# Altium footprint library con-harting.PCBLIB: 29 footprints (part 2 of 2)
Each footprint in its own frame and in the unit in brackets; x right, y up, seen from the top. Pads: shape width x height; smd on the part's side, far side on the other; paste and mask are expansions set on the pad; w line width, h text height; cw(c..) or ccw(c..) is an arc to the next point about the centre after c.
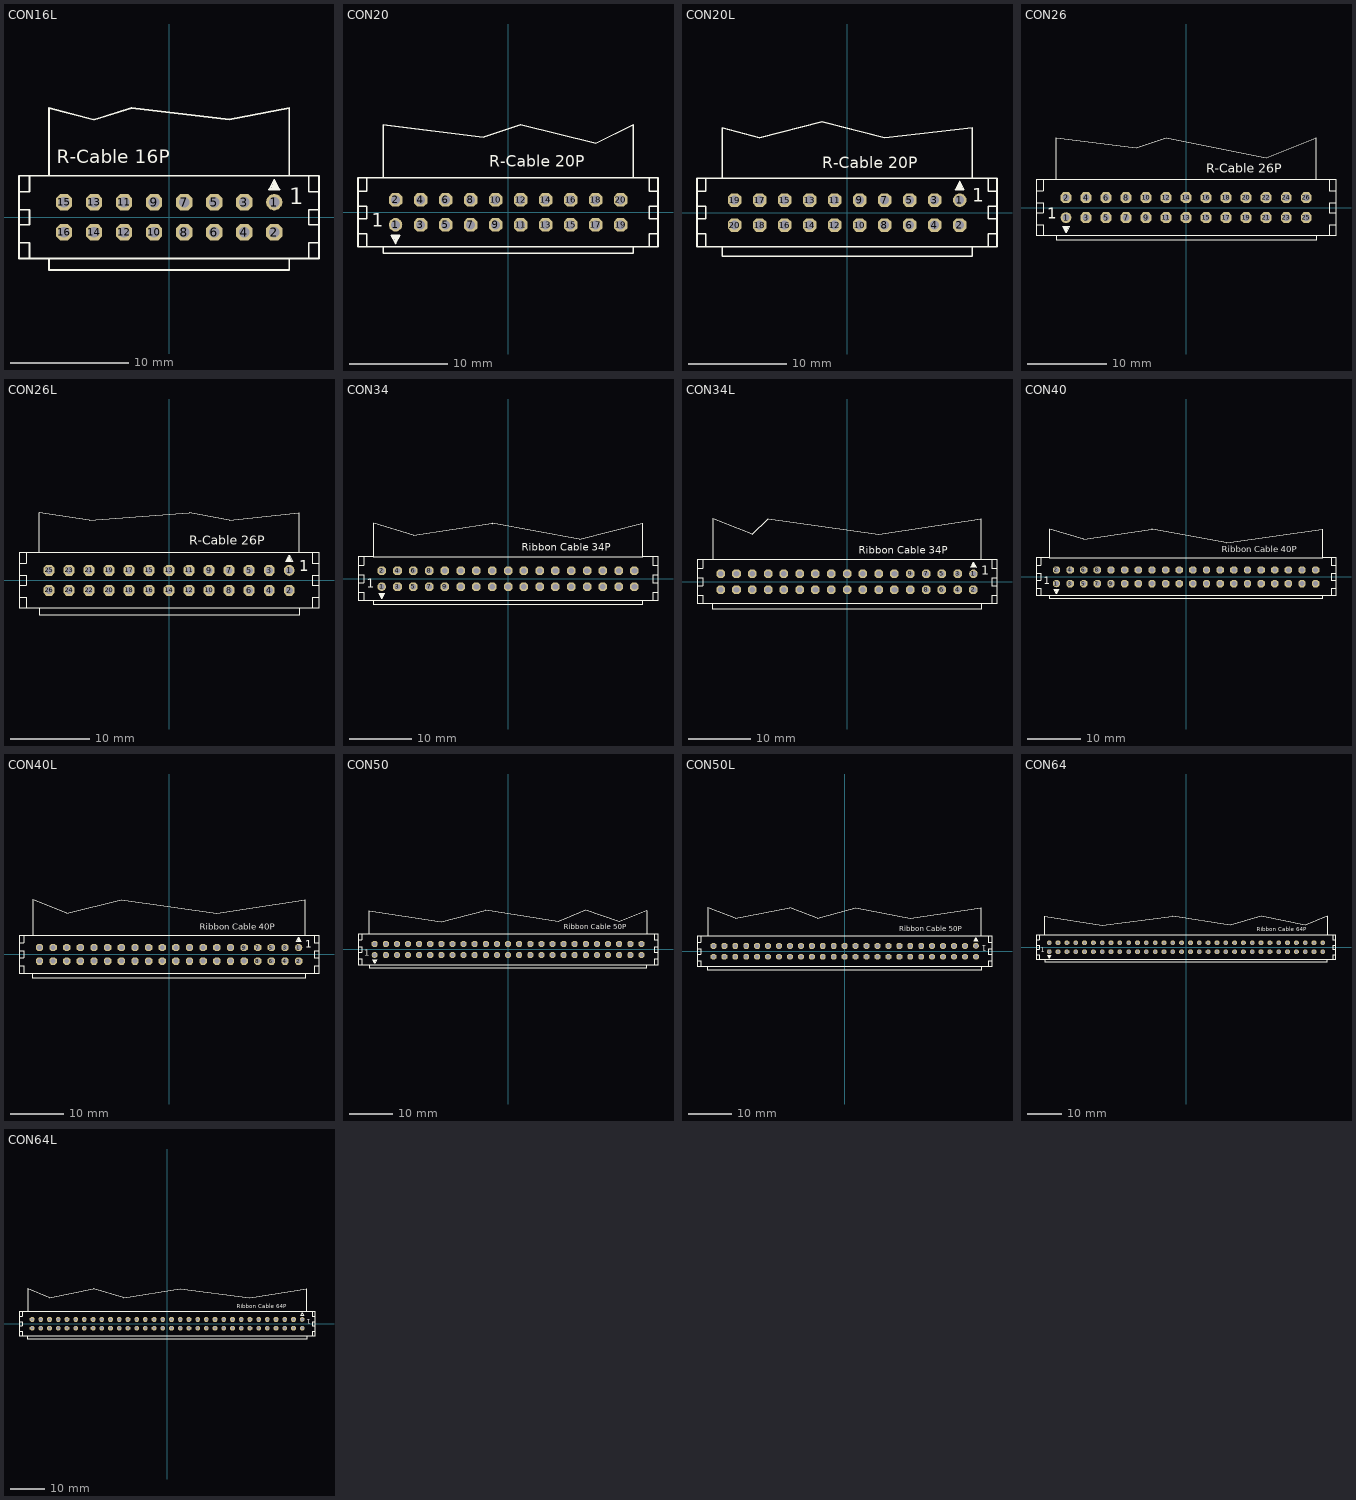
[diagram p1: the footprints below, top view; thin cyan lines are the x and y axes]

## CON16L [mil]
pads (16):
  round 54 hole 36: 1(350,50)
  oct 54x54 hole 36: 2(350,-50) 3(250,50) 4(250,-50) 5(150,50) 6(150,-50) 7(50,50) 8(50,-50) 9(-50,50) 10(-50,-50) 11(-150,50) 12(-150,-50) 13(-250,50) 14(-250,-50) 15(-350,50) 16(-350,-50)
Top Overlay:
  rectangle: 340,99 360,109
  rectangle: 350,94 365,99
  rectangle: 335,94 350,99
  rectangle: 345,107 355,117
  lines w6: 350,115 350,125 ; -500,-85 -465,-85 -465,-137 ; -500,-85 -500,-25 ; -500,-85 -500,-137 -465,-137 ; -500,-25 -465,-25 -465,25 -500,25 ; -500,-25 -500,25 ; -500,25 -500,85 ; -500,85 -500,138 -465,138 ; -500,85 -465,85 -465,138 ; -465,-137 -400,-137 ; -465,138 -400,138 ; -400,-137 -400,-176 400,-176 400,-137 ; -400,-137 400,-137 ; -400,138 -400,364 -250,325 -125,364 200,325 400,364 400,138 ; -400,138 400,138 ; 350,125 333,92 367,92 350,125 ; 400,-137 465,-137 ; 400,138 465,138 ; 465,-137 465,-85 499,-85 ; 465,-137 499,-137 499,-85 ; 465,138 499,138 499,85 ; 465,138 465,85 499,85 ; 499,-85 499,-25 ; 499,-25 465,-25 465,25 499,25 ; 499,-25 499,25 ; 499,25 499,85
  text "1" at 400,25 h93
  text "R-Cable 16P" at -375,165 h77.5

## CON20 [mil]
pads (20):
  round 54 hole 36: 1(-450,-50)
  oct 54x54 hole 36: 2(-450,50) 3(-350,-50) 4(-350,50) 5(-250,-50) 6(-250,50) 7(-150,-50) 8(-150,50) 9(-50,-50) 10(-50,50) 11(50,-50) 12(50,50) 13(150,-50) 14(150,50) 15(250,-50) 16(250,50) 17(350,-50) 18(350,50) 19(450,-50) 20(450,50)
Top Overlay:
  rectangle: -460,-109 -440,-99
  rectangle: -465,-99 -450,-94
  rectangle: -450,-99 -435,-94
  rectangle: -455,-117 -445,-107
  lines w6: -450,-115 -450,-125 ; -600,-85 -565,-85 -565,-137 ; -600,-85 -600,-25 ; -600,-85 -600,-137 -565,-137 ; -600,-25 -565,-25 -565,25 -600,25 ; -600,-25 -600,25 ; -600,25 -600,85 ; -600,85 -600,138 -565,138 ; -600,85 -565,85 -565,138 ; -565,-137 -500,-137 ; -565,138 -500,138 ; -500,-137 -500,-164 500,-164 500,-137 ; -500,-137 500,-137 ; -500,138 -500,350 -100,300 50,350 350,275 500,350 500,138 ; -500,138 500,138 ; -450,-125 -433,-92 -467,-92 -450,-125 ; 500,-137 565,-137 ; 500,138 565,138 ; 565,-137 565,-85 599,-85 ; 565,-137 599,-137 599,-85 ; 565,138 599,138 599,85 ; 565,138 565,85 599,85 ; 599,-85 599,-25 ; 599,-25 565,-25 565,25 599,25 ; 599,-25 599,25 ; 599,25 599,85
  text "1" at -545,-75 h93
  text "R-Cable 20P" at -75,165 h77.5

## CON20L [mil]
pads (20):
  round 54 hole 36: 1(450,50)
  oct 54x54 hole 36: 2(450,-50) 3(350,50) 4(350,-50) 5(250,50) 6(250,-50) 7(150,50) 8(150,-50) 9(50,50) 10(50,-50) 11(-50,50) 12(-50,-50) 13(-150,50) 14(-150,-50) 15(-250,50) 16(-250,-50) 17(-350,50) 18(-350,-50) 19(-450,50) 20(-450,-50)
Top Overlay:
  rectangle: 440,99 460,109
  rectangle: 450,94 465,99
  rectangle: 435,94 450,99
  rectangle: 445,107 455,117
  lines w6: 450,115 450,125 ; -600,-85 -565,-85 -565,-137 ; -600,-85 -600,-25 ; -600,-85 -600,-137 -565,-137 ; -600,-25 -565,-25 -565,25 -600,25 ; -600,-25 -600,25 ; -600,25 -600,85 ; -600,85 -600,138 -565,138 ; -600,85 -565,85 -565,138 ; -565,-137 -500,-137 ; -565,138 -500,138 ; -500,-137 -500,-175 500,-175 500,-137 ; -500,-137 500,-137 ; -500,138 -500,339 -350,300 -100,364 150,300 500,339 500,138 ; -500,138 500,138 ; 450,125 433,92 467,92 450,125 ; 500,-137 565,-137 ; 500,138 565,138 ; 565,-137 565,-85 599,-85 ; 565,-137 599,-137 599,-85 ; 565,138 599,138 599,85 ; 565,138 565,85 599,85 ; 599,-85 599,-25 ; 599,-25 565,-25 565,25 599,25 ; 599,-25 599,25 ; 599,25 599,85
  text "1" at 500,25 h93
  text "R-Cable 20P" at -100,162 h77.5

## CON26 [mil]
pads (26):
  round 54 hole 36: 1(-600,-50)
  oct 54x54 hole 36: 2(-600,50) 3(-500,-50) 4(-500,50) 5(-400,-50) 6(-400,50) 7(-300,-50) 8(-300,50) 9(-200,-50) 10(-200,50) 11(-100,-50) 12(-100,50) 13(0,-50) 14(0,50) 15(100,-50) 16(100,50) 17(200,-50) 18(200,50) 19(300,-50) 20(300,50) 21(400,-50) 22(400,50) 23(500,-50) 24(500,50) 25(600,-50) 26(600,50)
Top Overlay:
  rectangle: -610,-109 -590,-99
  rectangle: -615,-99 -600,-94
  rectangle: -600,-99 -585,-94
  rectangle: -605,-117 -595,-107
  lines w6: -600,-115 -600,-125 ; -750,-85 -715,-85 -715,-137 ; -750,-85 -750,-25 ; -750,-85 -750,-137 -715,-137 ; -750,-25 -715,-25 -715,25 -750,25 ; -750,-25 -750,25 ; -750,25 -750,85 ; -750,85 -750,138 -715,138 ; -750,85 -715,85 -715,138 ; -715,-137 -650,-137 ; -715,138 -650,138 ; -650,-137 -650,-164 650,-164 650,-137 ; -650,-137 650,-137 ; -650,138 -650,350 -250,300 -100,350 400,250 650,350 650,138 ; -650,138 650,138 ; -600,-125 -583,-92 -617,-92 -600,-125 ; 650,-137 715,-137 ; 650,138 715,138 ; 715,-137 715,-85 749,-85 ; 715,-137 749,-137 749,-85 ; 715,138 749,138 749,85 ; 715,138 715,85 749,85 ; 749,-85 749,-25 ; 749,-25 715,-25 715,25 749,25 ; 749,-25 749,25 ; 749,25 749,85
  text "1" at -695,-75 h93
  text "R-Cable 26P" at 100,160 h77.5

## CON26L [mil]
pads (26):
  round 54 hole 36: 1(600,50)
  oct 54x54 hole 36: 2(600,-50) 3(500,50) 4(500,-50) 5(400,50) 6(400,-50) 7(300,50) 8(300,-50) 9(200,50) 10(200,-50) 11(100,50) 12(100,-50) 13(0,50) 14(0,-50) 15(-100,50) 16(-100,-50) 17(-200,50) 18(-200,-50) 19(-300,50) 20(-300,-50) 21(-400,50) 22(-400,-50) 23(-500,50) 24(-500,-50) 25(-600,50) 26(-600,-50)
Top Overlay:
  rectangle: 590,99 610,109
  rectangle: 600,94 615,99
  rectangle: 585,94 600,99
  rectangle: 595,107 605,117
  lines w6: 600,115 600,125 ; -750,-85 -715,-85 -715,-137 ; -750,-85 -750,-25 ; -750,-85 -750,-137 -715,-137 ; -750,-25 -715,-25 -715,25 -750,25 ; -750,-25 -750,25 ; -750,25 -750,85 ; -750,85 -750,138 -715,138 ; -750,85 -715,85 -715,138 ; -715,-137 -650,-137 ; -715,138 -650,138 ; -650,-137 -650,-175 650,-175 650,-137 ; -650,-137 650,-137 ; -650,138 -650,339 -400,300 100,339 300,300 650,339 650,138 ; -650,138 650,138 ; 600,125 583,92 617,92 600,125 ; 650,-137 715,-137 ; 650,138 715,138 ; 715,-137 715,-85 749,-85 ; 715,-137 749,-137 749,-85 ; 715,138 749,138 749,85 ; 715,138 715,85 749,85 ; 749,-85 749,-25 ; 749,-25 715,-25 715,25 749,25 ; 749,-25 749,25 ; 749,25 749,85
  text "1" at 650,25 h93
  text "R-Cable 26P" at 100,162 h77.5

## CON34 [mil]
pads (34):
  round 54 hole 36: 1(-800,-50)
  oct 54x54 hole 36: 2(-800,50) 3(-700,-50) 4(-700,50) 5(-600,-50) 6(-600,50) 7(-500,-50) 8(-500,50) 9(-400,-50) 10(-400,50) 11(-300,-50) 12(-300,50) 13(-200,-50) 14(-200,50) 15(-100,-50) 16(-100,50) 17(0,-50) 18(0,50) 19(100,-50) 20(100,50) 21(200,-50) 22(200,50) 23(300,-50) 24(300,50) 25(400,-50) 26(400,50) 27(500,-50) 28(500,50) 29(600,-50) 30(600,50) 31(700,-50) 32(700,50) 33(800,-50) 34(800,50)
Top Overlay:
  rectangle: -810,-109 -790,-99
  rectangle: -815,-99 -800,-94
  rectangle: -800,-99 -785,-94
  rectangle: -805,-117 -795,-107
  lines w6: -800,-115 -800,-125 ; -100,350 -600,275 -850,350 -850,138 ; -99,350 450,250 850,350 850,138 ; -950,-85 -915,-85 -915,-137 ; -950,-85 -950,-25 ; -950,-85 -950,-137 -915,-137 ; -950,-25 -915,-25 -915,25 -950,25 ; -950,-25 -950,25 ; -950,25 -950,85 ; -950,85 -950,138 -915,138 ; -950,85 -915,85 -915,138 ; -915,-137 -850,-137 ; -915,138 -850,138 ; -850,-137 -850,-163 850,-163 850,-137 ; -850,-137 850,-137 ; -850,138 -850,137 850,137 850,138 ; -800,-125 -783,-92 -817,-92 -800,-125 ; 850,-137 915,-137 ; 850,138 915,138 ; 915,-137 915,-85 949,-85 ; 915,-137 949,-137 949,-85 ; 915,138 949,138 949,85 ; 915,138 915,85 949,85 ; 949,-85 949,-25 ; 949,-25 915,-25 915,25 949,25 ; 949,-25 949,25 ; 949,25 949,85
  lines w10: -100,350 -99,350
  text "1" at -895,-75 h93
  text "Ribbon Cable 34P" at 88,162 h77.5

## CON34L [mil]
pads (34):
  round 54 hole 36: 1(800,50)
  oct 54x54 hole 36: 2(800,-50) 3(700,50) 4(700,-50) 5(600,50) 6(600,-50) 7(500,50) 8(500,-50) 9(400,50) 10(400,-50) 11(300,50) 12(300,-50) 13(200,50) 14(200,-50) 15(100,50) 16(100,-50) 17(0,50) 18(0,-50) 19(-100,50) 20(-100,-50) 21(-200,50) 22(-200,-50) 23(-300,50) 24(-300,-50) 25(-400,50) 26(-400,-50) 27(-500,50) 28(-500,-50) 29(-600,50) 30(-600,-50) 31(-700,50) 32(-700,-50) 33(-800,50) 34(-800,-50)
Top Overlay:
  rectangle: 790,99 810,109
  rectangle: 800,94 815,99
  rectangle: 785,94 800,99
  rectangle: 795,107 805,117
  lines w6: 800,115 800,125 ; -950,-85 -915,-85 -915,-137 ; -950,-85 -950,-25 ; -950,-85 -950,-137 -915,-137 ; -950,-25 -915,-25 -915,25 -950,25 ; -950,-25 -950,25 ; -950,25 -950,85 ; -950,85 -950,138 -915,138 ; -950,85 -915,85 -915,138 ; -915,-137 -850,-137 ; -915,138 -850,138 ; -850,-137 -850,-175 850,-175 850,-137 ; -850,-137 850,-137 ; -850,138 -850,400 -600,300 -500,400 200,300 850,400 850,138 ; -850,138 850,138 ; 800,125 783,92 817,92 800,125 ; 850,-137 915,-137 ; 850,138 915,138 ; 915,-137 915,-85 949,-85 ; 915,-137 949,-137 949,-85 ; 915,138 949,138 949,85 ; 915,138 915,85 949,85 ; 949,-85 949,-25 ; 949,-25 915,-25 915,25 949,25 ; 949,-25 949,25 ; 949,25 949,85
  text "1" at 850,25 h97.65
  text "Ribbon Cable 34P" at 75,163 h77.5

## CON40 [mil]
pads (40):
  round 54 hole 36: 1(-950,-50)
  oct 54x54 hole 36: 2(-950,50) 3(-850,-50) 4(-850,50) 5(-750,-50) 6(-750,50) 7(-650,-50) 8(-650,50) 9(-550,-50) 10(-550,50) 11(-450,-50) 12(-450,50) 13(-350,-50) 14(-350,50) 15(-250,-50) 16(-250,50) 17(-150,-50) 18(-150,50) 19(-50,-50) 20(-50,50) 21(50,-50) 22(50,50) 23(150,-50) 24(150,50) 25(250,-50) 26(250,50) 27(350,-50) 28(350,50) 29(450,-50) 30(450,50) 31(550,-50) 32(550,50) 33(650,-50) 34(650,50) 35(750,-50) 36(750,50) 37(850,-50) 38(850,50) 39(950,-50) 40(950,50)
Top Overlay:
  rectangle: -960,-109 -940,-99
  rectangle: -965,-99 -950,-94
  rectangle: -950,-99 -935,-94
  rectangle: -955,-117 -945,-107
  lines w6: -950,-115 -950,-125 ; -250,350 -750,275 -1000,350 -1000,138 ; -249,350 300,250 1000,350 1000,138 ; -1100,-85 -1065,-85 -1065,-137 ; -1100,-85 -1100,-25 ; -1100,-85 -1100,-137 -1065,-137 ; -1100,-25 -1065,-25 -1065,25 -1100,25 ; -1100,-25 -1100,25 ; -1100,25 -1100,85 ; -1100,85 -1100,138 -1065,138 ; -1100,85 -1065,85 -1065,138 ; -1065,-137 -1000,-137 ; -1065,138 -1000,138 ; -1000,-137 -1000,-163 1000,-163 1000,-137 ; -1000,-137 1000,-137 ; -1000,138 -1000,137 1000,137 1000,138 ; -950,-125 -933,-92 -967,-92 -950,-125 ; 1000,-137 1065,-137 ; 1000,138 1065,138 ; 1065,-137 1065,-85 1099,-85 ; 1065,-137 1099,-137 1099,-85 ; 1065,138 1099,138 1099,85 ; 1065,138 1065,85 1099,85 ; 1099,-85 1099,-25 ; 1099,-25 1065,-25 1065,25 1099,25 ; 1099,-25 1099,25 ; 1099,25 1099,85
  lines w10: -250,350 -249,350
  text "1" at -1045,-75 h93
  text "Ribbon Cable 40P" at 263,162 h77.5

## CON40L [mil]
pads (40):
  round 54 hole 36: 1(950,50)
  oct 54x54 hole 36: 2(950,-50) 3(850,50) 4(850,-50) 5(750,50) 6(750,-50) 7(650,50) 8(650,-50) 9(550,50) 10(550,-50) 11(450,50) 12(450,-50) 13(350,50) 14(350,-50) 15(250,50) 16(250,-50) 17(150,50) 18(150,-50) 19(50,50) 20(50,-50) 21(-50,50) 22(-50,-50) 23(-150,50) 24(-150,-50) 25(-250,50) 26(-250,-50) 27(-350,50) 28(-350,-50) 29(-450,50) 30(-450,-50) 31(-550,50) 32(-550,-50) 33(-650,50) 34(-650,-50) 35(-750,50) 36(-750,-50) 37(-850,50) 38(-850,-50) 39(-950,50) 40(-950,-50)
Top Overlay:
  rectangle: 940,99 960,109
  rectangle: 950,94 965,99
  rectangle: 935,94 950,99
  rectangle: 945,107 955,117
  lines w6: 950,115 950,125 ; -1100,-85 -1065,-85 -1065,-137 ; -1100,-85 -1100,-25 ; -1100,-85 -1100,-137 -1065,-137 ; -1100,-25 -1065,-25 -1065,25 -1100,25 ; -1100,-25 -1100,25 ; -1100,25 -1100,85 ; -1100,85 -1100,138 -1065,138 ; -1100,85 -1065,85 -1065,138 ; -1065,-137 -1000,-137 ; -1065,138 -1000,138 ; -1000,-137 -1000,-175 1000,-175 1000,-137 ; -1000,-137 1000,-137 ; -1000,138 -1000,400 -750,300 -350,400 350,300 1000,400 1000,138 ; -1000,138 1000,138 ; 950,125 933,92 967,92 950,125 ; 1000,-137 1065,-137 ; 1000,138 1065,138 ; 1065,-137 1065,-85 1099,-85 ; 1065,-137 1099,-137 1099,-85 ; 1065,138 1099,138 1099,85 ; 1065,138 1065,85 1099,85 ; 1099,-85 1099,-25 ; 1099,-25 1065,-25 1065,25 1099,25 ; 1099,-25 1099,25 ; 1099,25 1099,85
  text "1" at 1000,25 h97.65
  text "Ribbon Cable 40P" at 225,163 h77.5

## CON50 [mil]
pads (50):
  round 54 hole 36: 1(-1200,-50)
  oct 54x54 hole 36: 2(-1200,50) 3(-1100,-50) 4(-1100,50) 5(-1000,-50) 6(-1000,50) 7(-900,-50) 8(-900,50) 9(-800,-50) 10(-800,50) 11(-700,-50) 12(-700,50) 13(-600,-50) 14(-600,50) 15(-500,-50) 16(-500,50) 17(-400,-50) 18(-400,50) 19(-300,-50) 20(-300,50) 21(-200,-50) 22(-200,50) 23(-100,-50) 24(-100,50) 25(0,-50) 26(0,50) 27(100,-50) 28(100,50) 29(200,-50) 30(200,50) 31(300,-50) 32(300,50) 33(400,-50) 34(400,50) 35(500,-50) 36(500,50) 37(600,-50) 38(600,50) 39(700,-50) 40(700,50) 41(800,-50) 42(800,50) 43(900,-50) 44(900,50) 45(1000,-50) 46(1000,50) 47(1100,-50) 48(1100,50) 49(1200,-50) 50(1200,50)
Top Overlay:
  rectangle: -1210,-109 -1190,-99
  rectangle: -1215,-99 -1200,-94
  rectangle: -1200,-99 -1185,-94
  rectangle: -1205,-117 -1195,-107
  lines w6: -1200,-115 -1200,-125 ; -1350,-85 -1315,-85 -1315,-137 ; -1350,-85 -1350,-25 ; -1350,-85 -1350,-137 -1315,-137 ; -1350,-25 -1315,-25 -1315,25 -1350,25 ; -1350,-25 -1350,25 ; -1350,25 -1350,85 ; -1350,85 -1350,138 -1315,138 ; -1350,85 -1315,85 -1315,138 ; -1315,-137 -1250,-137 ; -1315,138 -1250,138 ; -1250,-137 -1250,-163 1250,-163 1250,-137 ; -1250,-137 1250,-137 ; -1250,138 -1250,137 1250,137 1250,138 ; -1250,138 -1250,349 -600,249 -199,350 450,250 700,350 999,250 1250,349 1250,138 ; -1200,-125 -1183,-92 -1217,-92 -1200,-125 ; 1250,-137 1315,-137 ; 1250,138 1315,138 ; 1315,-137 1315,-85 1349,-85 ; 1315,-137 1349,-137 1349,-85 ; 1315,138 1349,138 1349,85 ; 1315,138 1315,85 1349,85 ; 1349,-85 1349,-25 ; 1349,-25 1315,-25 1315,25 1349,25 ; 1349,-25 1349,25 ; 1349,25 1349,85
  text "1" at -1295,-75 h93
  text "Ribbon Cable 50P" at 500,162 h77.5

## CON50L [mil]
pads (50):
  round 54 hole 36: 1(1200,50)
  oct 54x54 hole 36: 2(1200,-50) 3(1100,50) 4(1100,-50) 5(1000,50) 6(1000,-50) 7(900,50) 8(900,-50) 9(800,50) 10(800,-50) 11(700,50) 12(700,-50) 13(600,50) 14(600,-50) 15(500,50) 16(500,-50) 17(400,50) 18(400,-50) 19(300,50) 20(300,-50) 21(200,50) 22(200,-50) 23(100,50) 24(100,-50) 25(0,50) 26(0,-50) 27(-100,50) 28(-100,-50) 29(-200,50) 30(-200,-50) 31(-300,50) 32(-300,-50) 33(-400,50) 34(-400,-50) 35(-500,50) 36(-500,-50) 37(-600,50) 38(-600,-50) 39(-700,50) 40(-700,-50) 41(-800,50) 42(-800,-50) 43(-900,50) 44(-900,-50) 45(-1000,50) 46(-1000,-50) 47(-1100,50) 48(-1100,-50) 49(-1200,50) 50(-1200,-50)
Top Overlay:
  rectangle: 1190,99 1210,109
  rectangle: 1200,94 1215,99
  rectangle: 1185,94 1200,99
  rectangle: 1195,107 1205,117
  lines w6: 1200,115 1200,125 ; -1350,-85 -1315,-85 -1315,-137 ; -1350,-85 -1350,-25 ; -1350,-85 -1350,-137 -1315,-137 ; -1350,-25 -1315,-25 -1315,25 -1350,25 ; -1350,-25 -1350,25 ; -1350,25 -1350,85 ; -1350,85 -1350,138 -1315,138 ; -1350,85 -1315,85 -1315,138 ; -1315,-137 -1250,-137 ; -1315,138 -1250,138 ; -1250,-137 -1250,-175 1250,-175 1250,-137 ; -1250,-137 1250,-137 ; -1250,138 -1250,400 -1000,300 -500,400 -250,300 100,400 600,300 1250,400 1250,138 ; -1250,138 1250,138 ; 1200,125 1183,92 1217,92 1200,125 ; 1250,-137 1315,-137 ; 1250,138 1315,138 ; 1315,-137 1315,-85 1349,-85 ; 1315,-137 1349,-137 1349,-85 ; 1315,138 1349,138 1349,85 ; 1315,138 1315,85 1349,85 ; 1349,-85 1349,-25 ; 1349,-25 1315,-25 1315,25 1349,25 ; 1349,-25 1349,25 ; 1349,25 1349,85
  text "1" at 1300,75 h93
  text "Ribbon Cable 50P" at 500,163 h77.5

## CON64 [mil]
pads (64):
  round 54 hole 36: 1(-1550,-50)
  oct 54x54 hole 36: 2(-1550,50) 3(-1450,-50) 4(-1450,50) 5(-1350,-50) 6(-1350,50) 7(-1250,-50) 8(-1250,50) 9(-1150,-50) 10(-1150,50) 11(-1050,-50) 12(-1050,50) 13(-950,-50) 14(-950,50) 15(-850,-50) 16(-850,50) 17(-750,-50) 18(-750,50) 19(-650,-50) 20(-650,50) 21(-550,-50) 22(-550,50) 23(-450,-50) 24(-450,50) 25(-350,-50) 26(-350,50) 27(-250,-50) 28(-250,50) 29(-150,-50) 30(-150,50) 31(-50,-50) 32(-50,50) 33(50,-50) 34(50,50) 35(150,-50) 36(150,50) 37(250,-50) 38(250,50) 39(350,-50) 40(350,50) 41(450,-50) 42(450,50) 43(550,-50) 44(550,50) 45(650,-50) 46(650,50) 47(750,-50) 48(750,50) 49(850,-50) 50(850,50) 51(950,-50) 52(950,50) 53(1050,-50) 54(1050,50) 55(1150,-50) 56(1150,50) 57(1250,-50) 58(1250,50) 59(1350,-50) 60(1350,50) 61(1450,-50) 62(1450,50) 63(1550,-50) 64(1550,50)
Top Overlay:
  rectangle: -1560,-109 -1540,-99
  rectangle: -1565,-99 -1550,-94
  rectangle: -1550,-99 -1535,-94
  rectangle: -1555,-117 -1545,-107
  lines w6: -1550,-115 -1550,-125 ; -1700,-85 -1665,-85 -1665,-137 ; -1700,-85 -1700,-25 ; -1700,-85 -1700,-137 -1665,-137 ; -1700,-25 -1665,-25 -1665,25 -1700,25 ; -1700,-25 -1700,25 ; -1700,25 -1700,85 ; -1700,85 -1700,138 -1665,138 ; -1700,85 -1665,85 -1665,138 ; -1665,-137 -1600,-137 ; -1665,138 -1600,138 ; -1600,-137 -1600,-163 1600,-163 1600,-137 ; -1600,-137 1600,-137 ; -1600,138 -1600,137 1600,137 1600,138 ; -1600,138 -1600,349 -950,249 -149,350 500,250 850,350 1349,250 1600,349 1600,138 ; -1550,-125 -1533,-92 -1567,-92 -1550,-125 ; 1600,-137 1665,-137 ; 1600,138 1665,138 ; 1665,-137 1665,-85 1699,-85 ; 1665,-137 1699,-137 1699,-85 ; 1665,138 1699,138 1699,85 ; 1665,138 1665,85 1699,85 ; 1699,-85 1699,-25 ; 1699,-25 1665,-25 1665,25 1699,25 ; 1699,-25 1699,25 ; 1699,25 1699,85
  text "1" at -1645,-80 h93
  text "Ribbon Cable 64P" at 800,162 h77.5

## CON64L [mil]
pads (64):
  round 54 hole 36: 1(1550,50)
  oct 54x54 hole 36: 2(1550,-50) 3(1450,50) 4(1450,-50) 5(1350,50) 6(1350,-50) 7(1250,50) 8(1250,-50) 9(1150,50) 10(1150,-50) 11(1050,50) 12(1050,-50) 13(950,50) 14(950,-50) 15(850,50) 16(850,-50) 17(750,50) 18(750,-50) 19(650,50) 20(650,-50) 21(550,50) 22(550,-50) 23(450,50) 24(450,-50) 25(350,50) 26(350,-50) 27(250,50) 28(250,-50) 29(150,50) 30(150,-50) 31(50,50) 32(50,-50) 33(-50,50) 34(-50,-50) 35(-150,50) 36(-150,-50) 37(-250,50) 38(-250,-50) 39(-350,50) 40(-350,-50) 41(-450,50) 42(-450,-50) 43(-550,50) 44(-550,-50) 45(-650,50) 46(-650,-50) 47(-750,50) 48(-750,-50) 49(-850,50) 50(-850,-50) 51(-950,50) 52(-950,-50) 53(-1050,50) 54(-1050,-50) 55(-1150,50) 56(-1150,-50) 57(-1250,50) 58(-1250,-50) 59(-1350,50) 60(-1350,-50) 61(-1450,50) 62(-1450,-50) 63(-1550,50) 64(-1550,-50)
Top Overlay:
  rectangle: 1540,99 1560,109
  rectangle: 1550,94 1565,99
  rectangle: 1535,94 1550,99
  rectangle: 1545,107 1555,117
  lines w6: 1550,115 1550,125 ; -1700,-85 -1665,-85 -1665,-137 ; -1700,-85 -1700,-25 ; -1700,-85 -1700,-137 -1665,-137 ; -1700,-25 -1665,-25 -1665,25 -1700,25 ; -1700,-25 -1700,25 ; -1700,25 -1700,85 ; -1700,85 -1700,138 -1665,138 ; -1700,85 -1665,85 -1665,138 ; -1665,-137 -1600,-137 ; -1665,138 -1600,138 ; -1600,-137 -1600,-175 1600,-175 1600,-137 ; -1600,-137 1600,-137 ; -1600,138 -1600,400 -1350,300 -850,400 -500,300 150,400 950,300 1600,400 1600,138 ; -1600,138 1600,138 ; 1550,125 1533,92 1567,92 1550,125 ; 1600,-137 1665,-137 ; 1600,138 1665,138 ; 1665,-137 1665,-85 1699,-85 ; 1665,-137 1699,-137 1699,-85 ; 1665,138 1699,138 1699,85 ; 1665,138 1665,85 1699,85 ; 1699,-85 1699,-25 ; 1699,-25 1665,-25 1665,25 1699,25 ; 1699,-25 1699,25 ; 1699,25 1699,85
  text "1" at 1650,75 h93
  text "Ribbon Cable 64P" at 800,163 h77.5